# Altium footprint library INFINEON_PG-TDSON-8.PcbLib: 1 footprints
Each footprint in its own frame and in the unit in brackets; x right, y up, seen from the top. Pads: shape width x height; smd on the part's side, far side on the other; paste and mask are expansions set on the pad; w line width, h text height; cw(c..) or ccw(c..) is an arc to the next point about the centre after c.
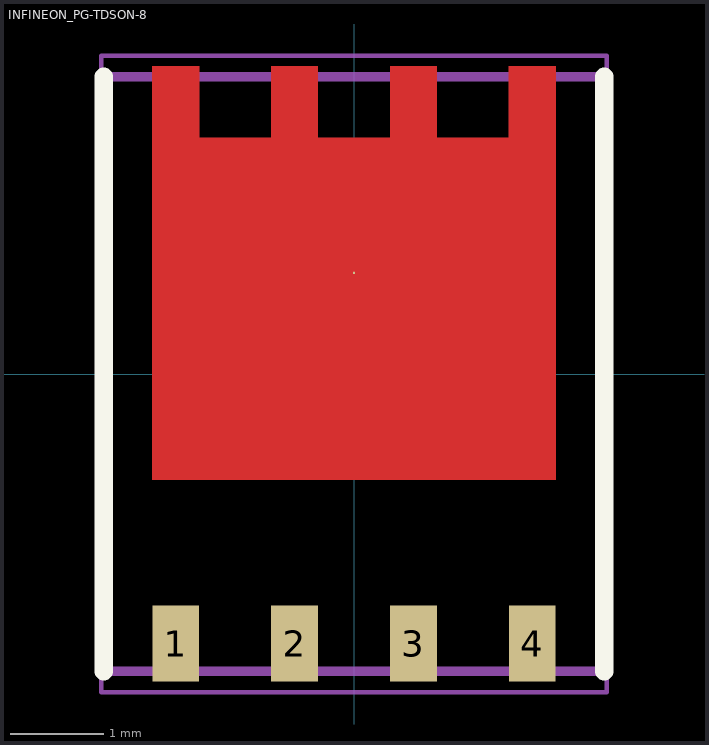
[diagram p0: the footprint, top view; thin cyan lines are the x and y axes]

## INFINEON_PG-TDSON-8 [mm] "INFINEON_PG-TDSON-8"
height 1.1
pads (5):
  rect 0.5x0.815 smd paste-0.05 mask+0.05: 1(-1.905,-2.88) 2(-0.635,-2.88) 3(0.635,-2.88) 4(1.905,-2.88)
  round 0.025 smd paste-2539.97 mask+0.05: 5(0,1.08)
Top Layer:
  region: -1.655,2.525 -1.655,3.29 -2.155,3.29 -2.155,-1.13 2.155,-1.13 2.155,3.29 1.655,3.29 1.655,2.525 0.885,2.525 0.885,3.29 0.385,3.29 0.385,2.525 -0.385,2.525 -0.385,3.29 -0.885,3.29 -0.885,2.525
Top Overlay:
  lines w0.2: -2.675,-3.175 -2.675,3.175 ; 2.675,-3.175 2.675,3.175
Top Paste:
  region: -0.1,-0.875 -0.1,0.625 -1.8,0.625 -1.8,-0.875
  region: 1.8,-0.875 1.8,0.625 0.1,0.625 0.1,-0.875
  region: 1.8,0.825 1.8,2.325 0.1,2.325 0.1,0.825
  region: -0.1,0.825 -0.1,2.325 -1.8,2.325 -1.8,0.825
Mechanical 13:
  lines w0.1: -2.675,-3.175 -2.675,3.175 2.675,3.175 2.675,-3.175 -2.675,-3.175
Mechanical 15:
  lines w0.05: -0.4,0 0.4,0 ; 0,-0.4 0,0.4 ; -2.7,-3.4 2.7,-3.4 2.7,3.4 -2.7,3.4 -2.7,-3.4
3D body: height 2, standoff 0, extent -2.675,-3.175 2.675,3.175